# Altium schematic symbol library HCS512.SchLib: 1 symbol
Pins are listed as number, name and electrical type; pins without a type are passive.

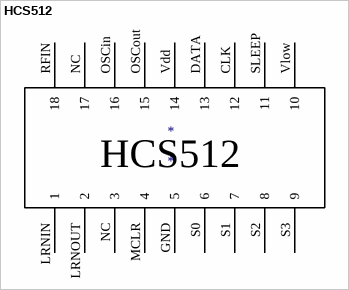
[diagram p0: symbol HCS512]

## HCS512
designator *
footprint *DIP794W47P254L2324H457Q18
pins: CLK 12, DATA 13, GND 5, LRNIN 1, LRNOUT 2, MCLR 4, NC 17, NC 3, OSCin 16, OSCout 15, RFIN 18, S0 6, S1 7, S2 8, S3 9, SLEEP 11, Vdd 14, Vlow 10